# EAGLE library part IN-18 (library Nixie Tube)
Indicator Tube (numeral height 40mm, no filter, side view)
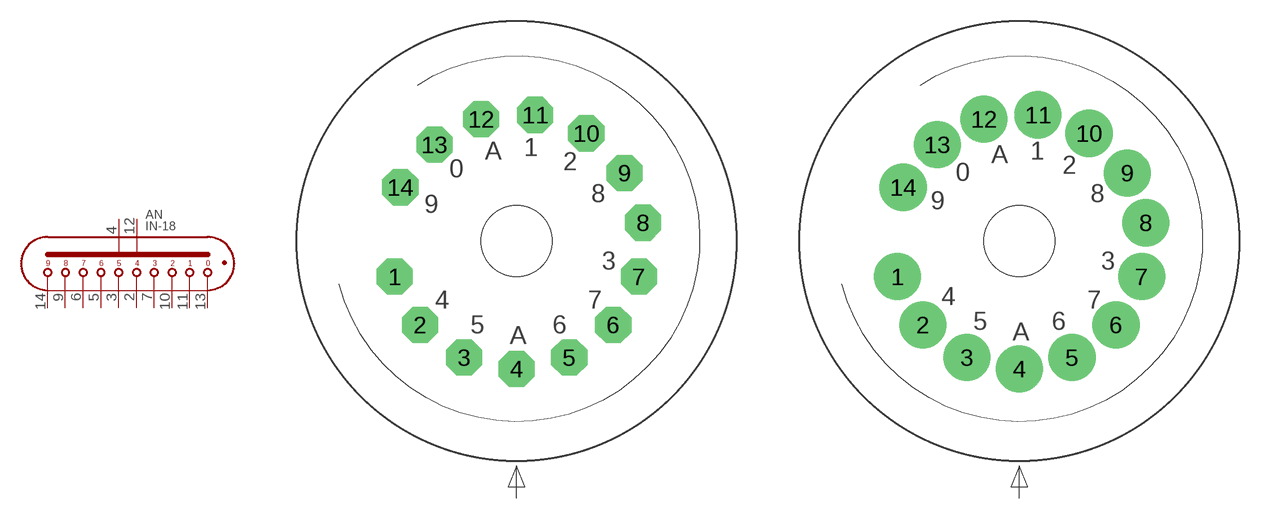
[diagram p0: symbol with the pads of IN-18-MULTI-CONTACT; footprints IN-18-MULTI-CONTACT, IN-18-AMP]

Designator prefix AN

## IN-18-B1-B_41.0002  [IN-18-MULTI-CONTACT]
2  4  pas
3  5  pas
4  A1  pas
5  6  pas
6  7  pas
7  3  pas
9  8  pas
10  2  pas
11  1  pas
12  A2  pas
13  0  pas
14  9  pas

## IN-18-1-380758-1  [IN-18-AMP]
Pads as for IN-18-MULTI-CONTACT

## Footprint IN-18-MULTI-CONTACT (pad centres in mm)
Socket with Multi-Contact (Mini-line Discret Socket Contact) Typ B1-B 41.0002
drill 1.1 pad 2.54 octagon: 1 -8.6,-2.5; 2 -6.8,-5.9; 3 -3.7,-8.2; 4 0,-9; 5 3.7,-8.2; 6 6.8,-5.9; 7 8.6,-2.5; 8 8.9,1.3; 9 7.6,4.8; 10 4.9,7.6; 11 1.3,8.9; 12 -2.5,8.6; 13 -5.8,6.8; 14 -8.2,3.8
hole 5 at 0,0

## Footprint IN-18-AMP (pad centres in mm)
Socket with AMP-Discret Socket Contact Typ 1-380758-1
drill 2.3 pad 3.2 round: 1 -8.6,-2.5; 2 -6.8,-5.9; 3 -3.7,-8.2; 4 0,-9; 5 3.7,-8.2; 6 6.8,-5.9; 7 8.6,-2.5; 8 8.9,1.3; 9 7.6,4.8; 10 4.9,7.6; 11 1.3,8.9; 12 -2.5,8.6; 13 -5.8,6.8; 14 -8.2,3.8
hole 5 at 0,0